# Altium schematic symbol library STM8S103F.SchLib: 1 symbol
Pins are listed as number, name and electrical type; pins without a type are passive.

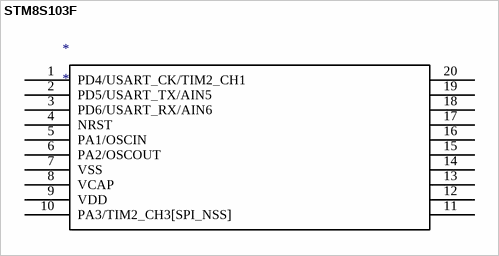
[diagram p0: symbol STM8S103F]

## STM8S103F
designator *
pins: 1 PD4/USART_CK/TIM2_CH1, 2 PD5/USART_TX/AIN5, 3 PD6/USART_RX/AIN6, 4 NRST, 5 PA1/OSCIN, 6 PA2/OSCOUT, 7 VSS, 8 VCAP, 9 VDD, 10 PA3/TIM2_CH3[SPI_NSS], 11, 12, 13, 14, 15, 16, 17, 18, 19, 20